# Altium footprint library NICELO_ED01r2.PcbLib: 28 footprints (part 2 of 2)
Each footprint in its own frame and in the unit in brackets; x right, y up, seen from the top. Pads: shape width x height; smd on the part's side, far side on the other; paste and mask are expansions set on the pad; w line width, h text height; cw(c..) or ccw(c..) is an arc to the next point about the centre after c.
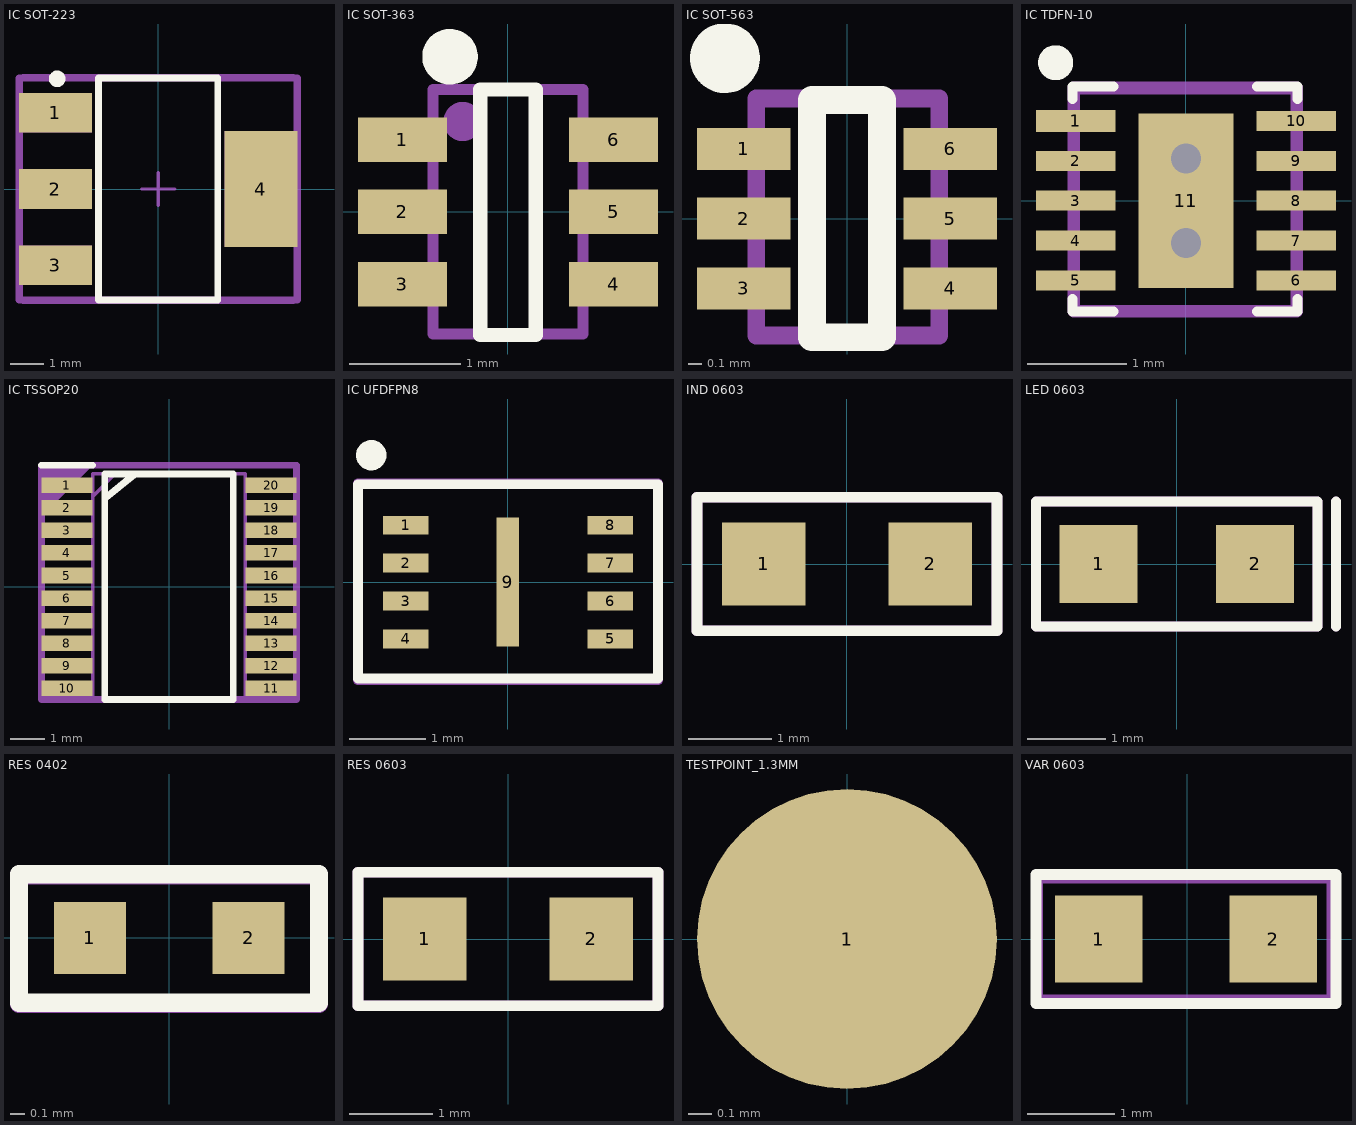
[diagram p1: the footprints below, top view; thin cyan lines are the x and y axes]

## IC SOT-223 [mm]
pads (4):
  rect 2.2x1.2 smd: 1(-3.1,2.3) 2(-3.1,0) 3(-3.1,-2.3)
  rect 2.2x3.5 smd: 4(3.1,0)
Top Overlay:
  circle w0.25: c-3.05,3.325 r0.125
  lines w0.2: -1.8,-3.35 1.8,-3.35 1.8,3.35 -1.8,3.35 -1.8,-3.35
Mechanical 13:
  lines w0.1: -1.85,-3.35 1.85,-3.35 1.85,3.35 -1.85,3.35 -1.85,-3.35
Mechanical 15:
  lines w0.05: -4.1,-3.45 4.1,-3.45 4.1,3.45 -4.1,3.45 -4.1,-3.45
  lines w0.1: -0.5,0 0.5,0 ; 0,-0.5 0,0.5
Top Assembly:
  rectangle: -4.2,-2.9 -2,-1.7
  rectangle: -4.2,-0.6 -2,0.6
  rectangle: -4.2,1.7 -2,2.9
  rectangle: 2,-1.75 4.2,1.75
  lines w0.2: -4.2,-3.35 4.2,-3.35 4.2,3.35 -4.2,3.35 -4.2,-3.35
  text "'.Designator'" at -3.302,-0.253 h1.52
3D body "SOT230P700X180-4L.step": height 1.8, standoff 0, extent -3.5,-3.35 3.5,3.35

## IC SOT-363 [mm]
pads (6):
  rect 0.8x0.4 smd mask+0.025: 1(-0.95,0.65) 2(-0.95,0) 3(-0.95,-0.65) 4(0.95,-0.65) 5(0.95,0) 6(0.95,0.65)
Top Overlay:
  circle w0.25: c-0.521,1.396 r0.125
  lines w0.127: -0.25,-1.11 0.25,-1.11 ; -0.25,-1.1 -0.25,1.1 0.25,1.1 0.25,-1.1
Top Assembly:
  circle w0.25: c-0.406,0.813 r0.051
  lines w0.1: -0.675,-1.1 0.675,-1.1 0.675,1.1 -0.675,1.1 -0.675,-1.1
  text "'.Designator'" at -0.508,-0.305 h0.7
3D body "SOT65P210X107-6L.step": height 1.07, standoff 0, extent -1.1,-1.1 1.1,1.1
3D body: height 0.25, standoff 0, extent -1.067,-0.356 -1.067,-0.356

## IC SOT-563 [mm]
pads (6):
  rect 0.67x0.3 smd mask+0: 1(-0.74,0.5) 2(-0.74,0) 3(-0.74,-0.5) 4(0.74,-0.5) 5(0.74,0) 6(0.74,0.5)
Top Overlay:
  circle w0.25: c-0.875,1.15 r0.125
  lines w0.2: -0.25,-0.85 0.25,-0.85 0.25,0.85 -0.25,0.85 -0.25,-0.85
Top Assembly:
  lines w0.127: -0.651,-0.838 -0.651,0.862 0.66,0.862 0.66,-0.838 -0.651,-0.838
  text "'.Designator'" at -0.991,-0.406 h1.27
3D body "SOT563.step": height 0.6, standoff 0.01, extent -0.813,-0.8 0.813,0.8

## IC TDFN-10 [mm]
pads (11):
  rect 0.8x0.22 smd paste+0 mask+0: 1(-1.105,0.8)
  rect 0.8x0.2 smd paste+0 mask+0: 2(-1.105,0.4) 3(-1.105,0) 4(-1.105,-0.4) 5(-1.105,-0.8)
  rect 0.8x0.2 smd mask+0: 6(1.105,-0.8) 7(1.105,-0.4) 8(1.105,0) 9(1.105,0.4) 10(1.105,0.8)
  rect 0.95x1.75 smd paste+0 mask+0.025: 11(0,0)
via 0,-0.425 diameter 0.6 hole 0.3
via 0,0.425 diameter 0.6 hole 0.3
Top Overlay:
  circle w0.25: c-1.308,1.384 r0.05
  lines w0.1: -1.138,-0.988 -1.138,-1.113 -0.728,-1.113 ; -1.138,1.02 -1.138,1.145 -0.728,1.145 ; 0.711,-1.113 1.121,-1.113 1.121,-0.988 ; 0.711,1.145 1.121,1.145 1.121,1.02
Top Assembly:
  lines w0.127: -1.127,1.13 -1.127,-1.109 1.112,-1.109 1.112,1.13 ; -1.105,1.13 1.095,1.13
  text "'.Designator'" at -1.105,-0.4 h1.27
3D body: height 0.75, standoff -0.05, extent -1.118,-1.08 1.092,1.13
3D body: height 6, standoff 1, extent 0.825,1.714 0.825,1.714
3D body: height 6, standoff 1, extent -0.781,1.845 -0.781,1.845
3D body: height 0.75, standoff -0.05, extent -1.13,1.13 -1.13,1.13

## IC TSSOP20 [mm]
pads (20):
  rect 1.475x0.45 smd mask+0: 1(-2.938,2.925) 2(-2.938,2.275) 3(-2.938,1.625) 4(-2.938,0.975) 5(-2.938,0.325) 6(-2.938,-0.325) 7(-2.938,-0.975) 8(-2.938,-1.625) 9(-2.938,-2.275) 10(-2.938,-2.925) 11(2.938,-2.925) 12(2.938,-2.275) 13(2.938,-1.625) 14(2.938,-0.975) 15(2.938,-0.325) 16(2.938,0.325) 17(2.938,0.975) 18(2.938,1.625) 19(2.938,2.275) 20(2.938,2.925)
Top Overlay:
  lines w0.2: -3.675,3.5 -2.2,3.5 ; -1.821,2.56 -1.007,3.229 ; -1.85,-3.25 -1.85,3.25 1.85,3.25 1.85,-3.25 -1.85,-3.25
Mechanical 13:
  lines w0.1: -2.2,2.6 -1.55,3.25 ; -2.2,-3.25 -2.2,3.25 2.2,3.25 2.2,-3.25 -2.2,-3.25
Top Assembly:
  region: -3.675,3.5 -3.676,3.5 -3.676,2.275 -3.425,2.275 -2.2,3.5
  region: -1.575,4.975
  lines w0.2: -3.675,-3.249 -3.675,3.5 3.676,3.5 3.676,-3.25 -3.674,-3.25 -3.675,-3.249
  text "'.Designator'" at -1.676,-0.33 h1.27
3D body "STM32L010F4P6.stp": height 1.2, standoff 0, extent -3.2,-3.25 3.2,3.25

## IC UFDFPN8 [mm]
pads (9):
  rect 0.6x0.25 smd mask+0.025: 1(-1.35,0.75) 2(-1.35,0.25) 3(-1.35,-0.25) 4(-1.35,-0.75) 5(1.35,-0.75) 6(1.35,-0.25) 7(1.35,0.25) 8(1.35,0.75)
  rect 0.3x1.7 smd mask+0.025: 9(0,0)
Top Overlay:
  circle w0.2: c-1.803,1.675 r0.1
  lines w0.127: -1.978,-1.272 1.981,-1.272 1.981,1.294 -1.978,1.294 -1.978,-1.272
Top Assembly:
  lines w0.127: -1.978,-1.297 -1.978,1.306 1.981,1.306 1.981,-1.297 -1.978,-1.297
  text "'.Designator'" at -1.6,-0.23 h1.27
3D body "UFDFPN8.step": height 0.56, standoff 0.01, extent -1.5,-1 1.5,1

## IND 0603 [mm]
pads (2):
  rect 1x1 smd mask+0.1: 1(-1,0) 2(1,0)
Top Overlay:
  lines w0.127: -1.8,-0.8 -1.8,0.8 1.8,0.8 1.8,-0.8 -1.8,-0.8
Top Assembly:
  lines w0.127: -1.8,-0.8 1.8,-0.8 1.8,0.8 -1.8,0.8 -1.8,-0.8
  text "'.Designator'" at -1.676,-0.178 h1.27
3D body: height 6, standoff 1, extent 0.635,-1.27 0.635,-1.27
3D body "Indutor_0603.stp": height 0.46, standoff 0.01, extent -0.8,-0.394 0.8,0.406

## LED 0603 [mm]
pads (2):
  rect 1x1 smd mask+0.1: 1(-1,0) 2(1,0)
Top Overlay:
  lines w0.127: 2.035,-0.8 2.035,0.8 ; -1.8,-0.8 1.8,-0.8 1.8,0.8 -1.8,0.8 -1.8,-0.8
Top Assembly:
  lines w0.127: 2.035,-0.8 2.035,0.8 ; -1.8,-0.8 -1.8,0.8 1.8,0.8 1.8,-0.8 -1.8,-0.8
  text "'.Designator'" at -1.676,-0.178 h1.27
3D body "LED_GREEN_0603.STEP": height 0.61, standoff 0.01, extent -0.8,-0.4 0.8,0.4
3D body: height 6, standoff 1, extent 0.635,-1.27 0.635,-1.27

## RES 0402 [mm]
pads (2):
  rect 0.5x0.5 smd mask+0.102: 1(-0.55,0) 2(0.55,0)
Top Overlay:
  lines w0.127: -1.041,-0.45 1.039,-0.45 1.039,0.443 -1.041,0.443 -1.041,-0.45
Top Assembly:
  lines w0.127: -1.041,-0.457 1.039,-0.457 1.039,0.436 -1.041,0.436 -1.041,-0.457
  text "'.Designator'" at -1.041,-0.457 h1.27
3D body "RESISTOR 0402.step": height 0.36, standoff 0.01, extent -0.5,-0.25 0.5,0.25

## RES 0603 [mm]
pads (2):
  rect 1x1 smd mask+0.1: 1(-1,0) 2(1,0)
Top Overlay:
  lines w0.127: -1.8,-0.8 -1.8,0.8 1.8,0.8 1.8,-0.8 -1.8,-0.8
Top Assembly:
  lines w0.127: -1.8,-0.8 1.8,-0.8 1.8,0.8 -1.8,0.8 -1.8,-0.8
  text "'.Designator'" at -1.524,-0.254 h1.27
3D body "RESISTOR 0603.stp": height 0.46, standoff 0.01, extent -0.724,-0.418 0.826,0.432

## TESTPOINT_1.3MM [mm]
pads (1):
  round 1.3 smd paste-1: 1(0,0)
Top Assembly:
  text "'.Designator'" at -2.667,-0.38 h1.52

## VAR 0603 [mm]
pads (2):
  rect 1x1 smd mask+0.05: 1(-1.016,0) 2(0.984,0)
Top Overlay:
  lines w0.127: -1.731,-0.737 1.698,-0.737 1.698,0.737 -1.731,0.737 -1.731,-0.737
Mechanical 1:
  lines w0.127: 1.684,-0.7 -1.716,-0.7 -1.716,0.7 1.684,0.7 ; 1.684,-0.675 1.684,0.725
Top Assembly:
  lines w0.127: -1.716,-0.7 -1.716,0.7 1.651,0.7 1.651,-0.7 -1.716,-0.7
  text "'.Designator'" at -1.651,-0.381 h1.54
3D body: height 2.97, standoff 0.57, extent 1,0 1,0
3D body: height 44.28, standoff 43.33, extent 1,0 1,0
3D body "CAP0603.stp": height 0.95, standoff 0, extent -0.901,-0.475 0.869,0.475